# EAGLE library part TS2509 (library TS2509)
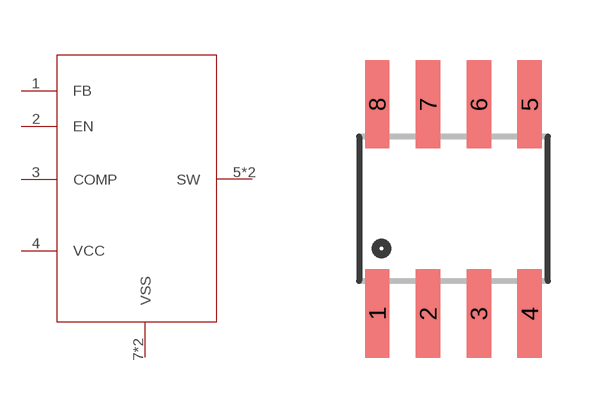
[diagram p0: symbol with the pads of SO08; footprint SO08]

Designator prefix -

## TS2509  [SO08]
1  FB
2  EN  in
3  COMP
4  VCC  in
5  SW  out
6  SW  out
7  VSS  in
8  VSS  in

## Footprint SO08 (pad centres in mm)
Small Outline Package Fits JEDEC packages (narrow SOIC-8)
smd 0.61 x 2.21: 1 -1.905,-2.616; 2 -0.635,-2.616; 3 0.635,-2.616; 4 1.905,-2.616; 5 1.905,2.616; 6 0.635,2.616; 7 -0.635,2.616; 8 -1.905,2.616